# Altium footprint library VAR-RELAY-5V10A.PcbLib: 1 footprints
Each footprint in its own frame and in the unit in brackets; x right, y up, seen from the top. Pads: shape width x height; smd on the part's side, far side on the other; paste and mask are expansions set on the pad; w line width, h text height; cw(c..) or ccw(c..) is an arc to the next point about the centre after c.
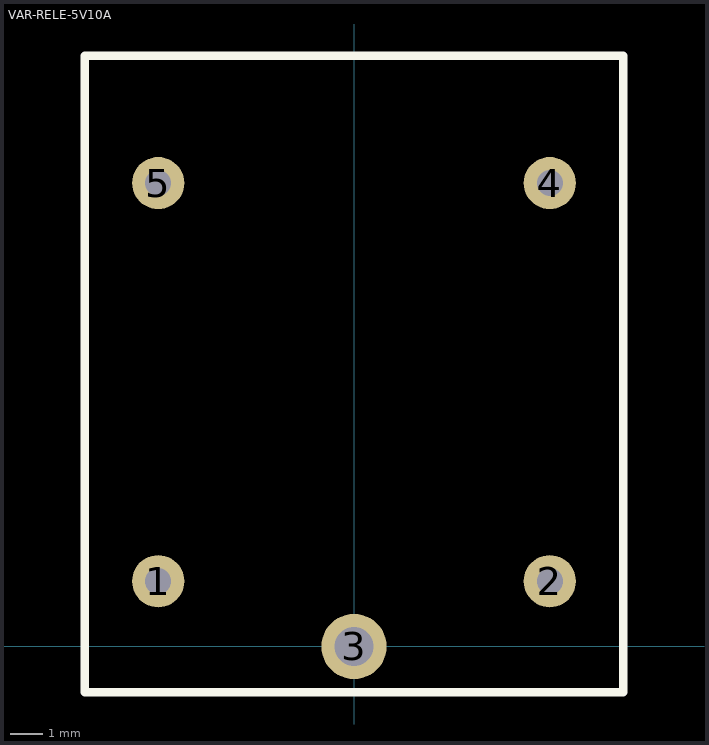
[diagram p0: the footprint, top view; thin cyan lines are the x and y axes]

## VAR-RELE-5V10A [mm] "Relay 5V 10A"
pads (5):
  round 1.6 hole 0.8: 1(-6,2) 2(6,2) 4(6,14.2) 5(-6,14.2)
  round 2 hole 1.2: 3(0,0)
Top Overlay:
  lines w0.254: -8.25,-1.4 -8.25,18.1 8.25,18.1 8.25,-1.4 -8.25,-1.4
3D body "VAR-RELAY-5V10A.stp": height 14.94, standoff -3.61, extent -7.544,-1.143 7.544,17.551